# Altium footprint library Argus.PcbLib: 5 footprints
Each footprint in its own frame and in the unit in brackets; x right, y up, seen from the top. Pads: shape width x height; smd on the part's side, far side on the other; paste and mask are expansions set on the pad; w line width, h text height; cw(c..) or ccw(c..) is an arc to the next point about the centre after c.
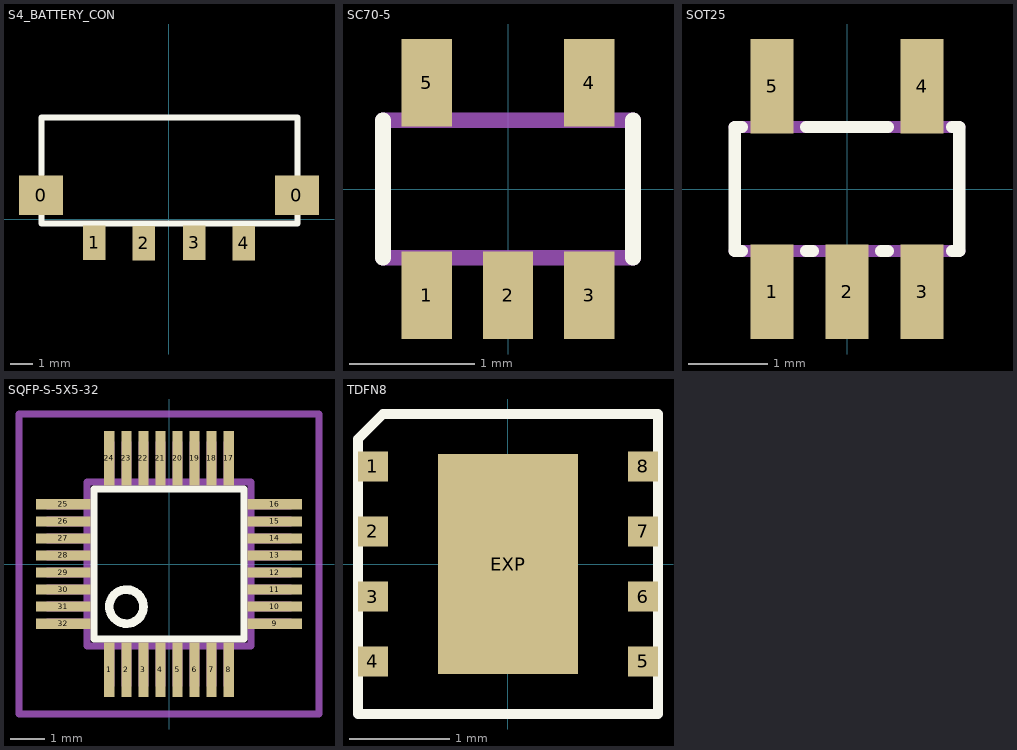
[diagram p0: the footprints below, top view; thin cyan lines are the x and y axes]

## S4_BATTERY_CON [mm]
pads (6):
  rect 1.95x1.75 smd: 0(-5.662,1.063) 0(5.663,1.063)
  rect 1x1.524 smd: 1(-3.312,-1.038) 2(-1.112,-1.063) 3(1.113,-1.038) 4(3.313,-1.063)
Top Overlay:
  lines w0.254: -5.637,0.175 -5.637,-0.187 5.688,-0.187 5.688,0.163 ; -5.637,1.988 -5.637,4.513 5.688,4.513 5.688,1.938
3D body "User Library-BatteryConnectorS4 v1.step": height 1.27, standoff -2.73, extent -6.486,-1.062 6.463,6.262

## SC70-5 [mm]
pads (5):
  rect 0.4x0.7 smd: 1(-0.65,-0.85) 2(0,-0.85) 3(0.65,-0.85) 4(0.65,0.85) 5(-0.65,0.85)
Top Overlay:
  lines w0.127: -1,-0.55 -1,0.55 ; 1,-0.55 1,0.55
Mechanical 16:
  rectangle: -0.125,-1.05 0.125,-0.6
  rectangle: -0.775,-1.05 -0.525,-0.6
  rectangle: 0.525,-1.05 0.775,-0.6
  rectangle: -0.775,0.6 -0.525,1.05
  rectangle: 0.525,0.6 0.775,1.05
  lines w0.127: -1,-0.55 1,-0.55 ; -1,0.55 1,0.55
3D body "User Library-SC70-5-1.step": height 0.95, standoff 0, extent -1,-1.05 1,1.05

## SOT25 [mm]
pads (5):
  rect 0.55x1.2 smd: 1(-0.95,-1.3) 2(0,-1.3) 3(0.95,-1.3) 4(0.95,1.3) 5(-0.95,1.3)
Top Overlay:
  lines w0.152: -1.328,-0.785 -1.422,-0.785 -1.422,0.785 -1.328,0.785 ; -0.522,-0.785 -0.428,-0.785 ; -0.522,0.785 0.522,0.785 ; 0.428,-0.785 0.522,-0.785 ; 1.328,-0.785 1.422,-0.785 1.422,0.785 1.328,0.785
Mechanical 16:
  rectangle: -1.2,-1.5 -0.7,-0.85
  rectangle: -0.25,-1.5 0.25,-0.85
  rectangle: 0.7,-1.5 1.2,-0.85
  rectangle: 0.7,0.85 1.2,1.5
  rectangle: -1.2,0.85 -0.7,1.5
  lines w0.152: -1.422,-0.785 1.422,-0.785 ; -1.422,0.785 1.422,0.785
3D body "User Library-sot25.step": height 1.1, standoff -0.05, extent -1.5,-1.175 1.5,1.225

## SQFP-S-5X5-32 [mm]
pads (32):
  rect 0.3x1.6 smd: 1(-1.75,-3.1) 2(-1.25,-3.1) 3(-0.75,-3.1) 4(-0.25,-3.1) 5(0.25,-3.1) 6(0.75,-3.1) 7(1.25,-3.1) 8(1.75,-3.1) 17(1.75,3.1) 18(1.25,3.1) 19(0.75,3.1) 20(0.25,3.1) 21(-0.25,3.1) 22(-0.75,3.1) 23(-1.25,3.1) 24(-1.75,3.1)
  rect 1.6x0.3 smd: 9(3.1,-1.75) 10(3.1,-1.25) 11(3.1,-0.75) 12(3.1,-0.25) 13(3.1,0.25) 14(3.1,0.75) 15(3.1,1.25) 16(3.1,1.75) 25(-3.1,1.75) 26(-3.1,1.25) 27(-3.1,0.75) 28(-3.1,0.25) 29(-3.1,-0.25) 30(-3.1,-0.75) 31(-3.1,-1.25) 32(-3.1,-1.75)
Top Overlay:
  circle w0.254: c-1.25,-1.25 r0.5
  lines w0.203: -2.2,-2.2 -2.2,2.2 2.2,2.2 2.2,-2.2 -2.2,-2.2
Mechanical 16:
  rectangle: -3.6,-1.9 -2.45,-1.6
  rectangle: -3.6,-1.4 -2.45,-1.1
  rectangle: -3.6,-0.9 -2.45,-0.6
  rectangle: -3.6,-0.4 -2.45,-0.1
  rectangle: -3.6,0.1 -2.45,0.4
  rectangle: -3.6,0.6 -2.45,0.9
  rectangle: -3.6,1.1 -2.45,1.4
  rectangle: -3.6,1.6 -2.45,1.9
  rectangle: -1.9,2.45 -1.6,3.6
  rectangle: -1.4,2.45 -1.1,3.6
  rectangle: -0.9,2.45 -0.6,3.6
  rectangle: -0.4,2.45 -0.1,3.6
  rectangle: 0.1,2.45 0.4,3.6
  rectangle: 0.6,2.45 0.9,3.6
  rectangle: 1.1,2.45 1.4,3.6
  rectangle: 1.6,2.45 1.9,3.6
  rectangle: 2.45,1.6 3.6,1.9
  rectangle: 2.45,1.1 3.6,1.4
  rectangle: 2.45,0.6 3.6,0.9
  rectangle: 2.45,0.1 3.6,0.4
  rectangle: 2.45,-0.4 3.6,-0.1
  rectangle: 2.45,-0.9 3.6,-0.6
  rectangle: 2.45,-1.4 3.6,-1.1
  rectangle: 2.45,-1.9 3.6,-1.6
  rectangle: 1.6,-3.6 1.9,-2.45
  rectangle: 1.1,-3.6 1.4,-2.45
  rectangle: 0.6,-3.6 0.9,-2.45
  rectangle: 0.1,-3.6 0.4,-2.45
  rectangle: -0.4,-3.6 -0.1,-2.45
  rectangle: -0.9,-3.6 -0.6,-2.45
  rectangle: -1.4,-3.6 -1.1,-2.45
  rectangle: -1.9,-3.6 -1.6,-2.45
  lines w0.203: -2.4,-2.4 -2.4,2.4 2.4,2.4 2.4,-2.4 -2.4,-2.4
Mechanical 27:
  lines w0.2: -4.4,-4.4 4.4,-4.4 4.4,4.4 -4.4,4.4 -4.4,-4.4
3D body "SW3dPS-TQFP32-5.STEP": height 1.19, standoff -0.04, extent -3.505,-3.52 3.495,3.48

## TDFN8 [mm]
pads (9):
  rect 0.3x0.3 smd: 1(-1.35,0.975) 2(-1.35,0.325) 3(-1.35,-0.325) 4(-1.35,-0.975) 5(1.35,-0.975) 6(1.35,-0.325) 7(1.35,0.325) 8(1.35,0.975)
  rect 1.4x2.2 smd: EXP(0,0)
Top Overlay:
  lines w0.1: -1.5,-1.5 -1.5,1.25 -1.25,1.5 1.5,1.5 1.5,-1.5 -1.5,-1.5
3D body "User Library-TDFN 8.step": height 0.7, standoff -0.05, extent -1.501,-1.5 1.501,1.5